# Altium footprint library Components - 14.03.25 - 18.59.PcbLib: 1 footprints
Each footprint in its own frame and in the unit in brackets; x right, y up, seen from the top. Pads: shape width x height; smd on the part's side, far side on the other; paste and mask are expansions set on the pad; w line width, h text height; cw(c..) or ccw(c..) is an arc to the next point about the centre after c.
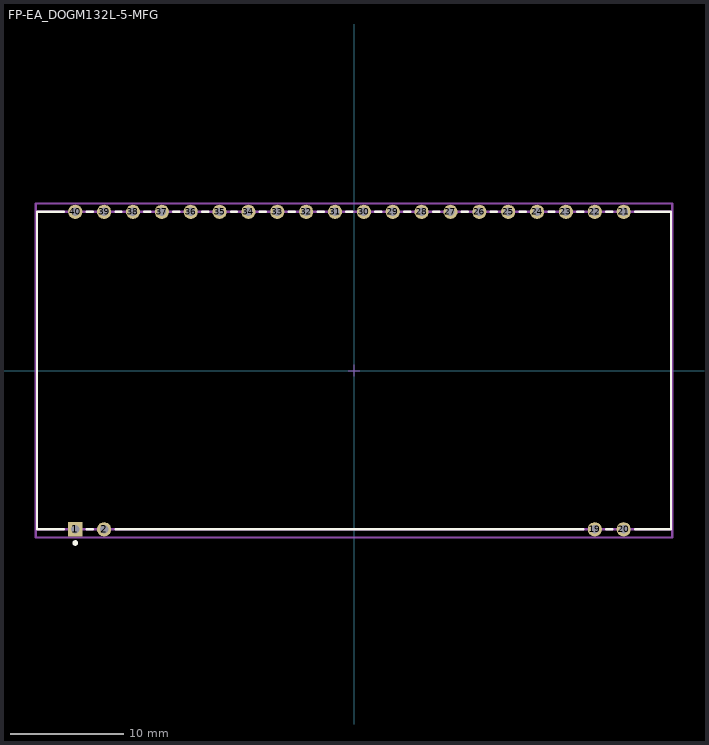
[diagram p0: the footprint, top view; thin cyan lines are the x and y axes]

## FP-EA_DOGM132L-5-MFG [mm]
pads (24):
  rect 1.25x1.25 hole 0.75 paste-2539.97 mask+0: 1(-24.53,-13.97)
  round 1.25 hole 0.75 paste-2539.97 mask+0: 2(-21.99,-13.97) 19(21.19,-13.97) 20(23.73,-13.97) 21(23.73,13.97) 22(21.19,13.97) 23(18.65,13.97) 24(16.11,13.97) 25(13.57,13.97) 26(11.03,13.97) 27(8.49,13.97) 28(5.95,13.97) 29(3.41,13.97) 30(0.87,13.97) 31(-1.67,13.97) 32(-4.21,13.97) 33(-6.75,13.97) 34(-9.29,13.97) 35(-11.83,13.97) 36(-14.37,13.97) 37(-16.91,13.97) 38(-19.45,13.97) 39(-21.99,13.97) 40(-24.53,13.97)
Top Overlay:
  circle w0.25: c-24.525,-15.17 r0.125
  lines w0.2: -25.53,-13.97 -27.9,-13.97 -27.9,13.97 -25.53,13.97 ; -23.53,-13.97 -22.99,-13.97 ; -23.53,13.97 -22.99,13.97 ; -20.99,-13.97 20.19,-13.97 ; -20.99,13.97 -20.45,13.97 ; -18.45,13.97 -17.91,13.97 ; -15.91,13.97 -15.37,13.97 ; -13.37,13.97 -12.83,13.97 ; -10.83,13.97 -10.29,13.97 ; -8.29,13.97 -7.75,13.97 ; -5.75,13.97 -5.21,13.97 ; -3.21,13.97 -2.67,13.97 ; -0.67,13.97 -0.13,13.97 ; 1.87,13.97 2.41,13.97 ; 4.41,13.97 4.95,13.97 ; 6.95,13.97 7.49,13.97 ; 9.49,13.97 10.03,13.97 ; 12.03,13.97 12.57,13.97 ; 14.57,13.97 15.11,13.97 ; 17.11,13.97 17.65,13.97 ; 19.65,13.97 20.19,13.97 ; 22.19,-13.97 22.73,-13.97 ; 22.19,13.97 22.73,13.97 ; 24.73,-13.97 27.9,-13.97 27.9,13.97 24.73,13.97
Top Assembly:
  lines w0.2: -28,-14.695 -28,14.695 28,14.695 28,-14.695 -28,-14.695
  text ".Designator" at 0,0.188 h1
Top 3D Body:
  lines w0.2: -27.9,-13.97 -27.9,13.97 27.9,13.97 27.9,-13.97 -27.9,-13.97
Top Courtyard:
  lines w0.2: -28,-14.695 -28,14.695 28,14.695 28,-14.695 -28,-14.695
Top Component Center:
  lines w0.1: -0.5,0 0.5,0 ; 0,-0.5 0,0.5
3D body "Disp_Electronic_Assembly_EA_DOGM132L-5_eec.STEP": height 0.25, standoff 0, extent -28,-14.695 28,14.695